# Altium footprint library qfc.PcbLib: 40 footprints (part 1 of 3)
Each footprint in its own frame and in the unit in brackets; x right, y up, seen from the top. Pads: shape width x height; smd on the part's side, far side on the other; paste and mask are expansions set on the pad; w line width, h text height; cw(c..) or ccw(c..) is an arc to the next point about the centre after c.
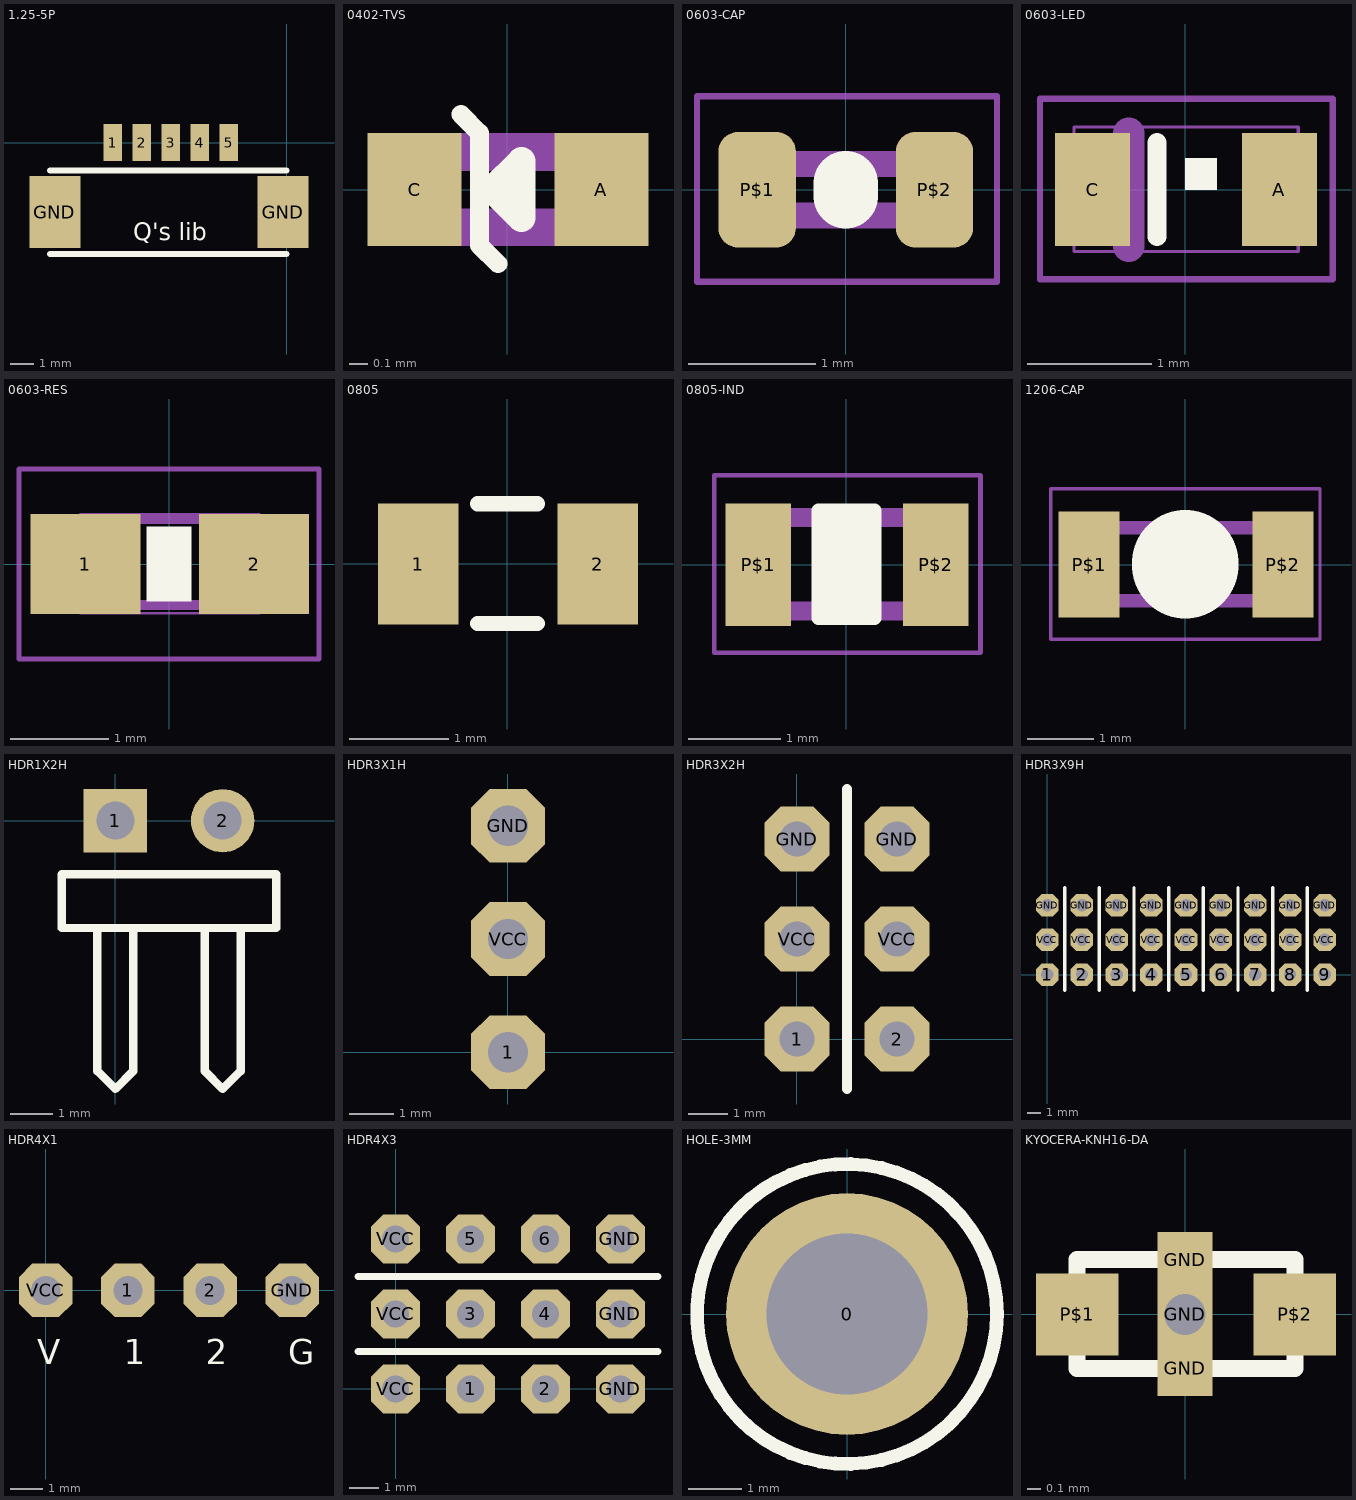
[diagram p0: the footprints below, top view; thin cyan lines are the x and y axes]

## 1.25-5P [mm]
pads (7):
  rect 0.8x1.6 smd: 1(-7.5,0) 2(-6.25,0) 3(-5,0) 4(-3.75,0) 5(-2.5,0)
  rect 2.2x3.1 smd: GND(-9.982,-2.997) GND(-0.15,-3)
Top Overlay:
  lines w0.25: -10.2,-4.8 0,-4.8 ; -10.2,-1.2 0,-1.2
  text "Q's lib" at -6.6,-4.2 h0.76

## 0402-TVS [mil] "0402-TVS"
pads (2):
  rect 20x24 smd: A(20,0) C(-19.68,0)
Top Overlay:
  lines w4: -9.84,16 -5.91,12 -5.91,-11.81 -1.97,-15.75
  lines w6: -3,0 3,0 ; -3,0 3,-6 3,0 ; -3,0 3,6 3,0
Mechanical 16:
  rectangle: 16.06,-12 28.06,12
  rectangle: -27.94,-12 -15.94,12
  lines w8: -20,-8 20,-8 ; -20,8 20,8
3D body: height 19.68, standoff 0, extent -19.69,-9.84 19.68,9.84

## 0603-CAP [mil] "0603-CAP"
pads (2):
  rrect50% 24x36 smd mask+0: P$1(-27.56,0) P$2(27.56,0)
Top Overlay:
  lines w20: 0,-2 0,2
Mechanical 16:
  rectangle: 16.25,-11.94 28.25,12.06
  rectangle: -27.75,-11.94 -15.75,12.06
  lines w2: -46.26,-28.54 -46.26,29 47,29 47,-28.54 -46.26,-28.54
  lines w8: -20,-8 20,-8 ; -20,8 20,8
3D body: height 34.25, standoff -0.39, extent -31.5,-15.95 31.5,15.94

## 0603-LED [mil]
pads (2):
  rect 24x36 smd: A(30,0) C(-29.53,0)
Top Overlay:
  region: 0,0 10,0 10,10 0,10
  lines w6: -9,-15 -9,15
Mechanical 16:
  region: 0,0 10,0 10,10 0,10
  lines w1: -35.43,-19.69 -35.43,20 36,20 36,-19.69 -35.43,-19.69
  lines w2: -46.26,-28.54 -46.26,29 47,29 47,-28.54 -46.26,-28.54
  lines w10: -18,-18 -18,18

## 0603-RES [mil] "0603-RES"
pads (2):
  rect 44x40 smd: 1(-33.46,0) 2(34,0)
Top Overlay:
  rectangle: -9,-15 9,15
Mechanical 6:
  rectangle: -7.87,-11.81 8,12
Mechanical 16:
  rectangle: 13,-18.5 33,19
  rectangle: -33.24,-19.21 -13.55,18.29
  lines w1: -35.43,-19.68 -35.43,20 36,20 36,-19.68 -35.43,-19.68
  lines w2: -60,-38 -60,38 60,38 60,-38 -60,-38
  lines w4: -14.02,-16.5 15,-16.5 ; -14.02,18 15,18
3D body: height 34.25, standoff -0.39, extent -31.5,-15.94 31.5,15.95

## 0805 [mil] "0805"
pads (2):
  rect 32x48 smd: 1(-35.43,0) 2(36,0)
Top Overlay:
  lines w6: -11.81,-23.62 12,-23.62 ; -11.81,24 12,24
3D body: height 30.79, standoff 0, extent -39.37,-24.61 39.37,24.6

## 0805-IND [mil]
pads (2):
  rect 28x52 smd: P$1(-37.4,0) P$2(38,0)
Top Overlay:
  rectangle: -11.76,-22.6 12,22.99
  lines w6: -11.76,-22.59 12,-22.59 12,23 -11.76,23 -11.76,-22.59
Mechanical 16:
  rectangle: 24,-23.68 40,23.99
  rectangle: -39.37,-23.68 -23.62,23.99
  lines w2: -56.1,-37.4 -56.1,38 57,38 57,-37.4 -56.1,-37.4
  lines w8: -23.62,-19.69 24,-19.69 ; -23.62,20 24,20

## 1206-CAP [mil]
pads (2):
  rect 36x63 smd: P$1(-57.09,0) P$2(58,0)
Top Overlay:
  lines w63: 0,-0.39 0,1
Mechanical 16:
  rectangle: 46.04,-25.59 69.04,26
  rectangle: -68.88,-25.6 -45.26,25.99
  lines w2: -79.72,-44.29 -79.72,45 80,45 80,-44.29 -79.72,-44.29
  lines w8: -45.28,-21.59 46,-21.59 ; -45.28,22 46,22

## HDR1X2H [mm] "Connector; Header; 2 Position; Right Angle"
pads (2):
  rect 1.5x1.5 hole 0.9: 1(0,0)
  round 1.5 hole 0.9: 2(2.54,0)
Top Overlay:
  lines w0.2: -0.423,-2.54 -0.423,-5.927 0,-6.35 0.423,-5.927 0.423,-2.54 ; 2.117,-2.54 2.117,-5.927 2.54,-6.35 2.963,-5.927 2.963,-2.54 ; -1.27,-2.54 -1.27,-1.27 3.81,-1.27 3.81,-2.54 -1.27,-2.54

## HDR3X1H [mil]
pads (3):
  oct 65x65 hole 35.43: 1(0,0) GND(0,200) VCC(0,100)
3D body: height 393.7, standoff 0, extent -19.24,80.04 20.13,119.41
3D body: height 118.11, standoff 0, extent -50,-50 50,250
3D body: height 393.7, standoff 0, extent -19.24,-19.96 20.13,19.41
3D body: height 393.7, standoff 0, extent -19.24,180.04 20.13,219.41

## HDR3X2H [mil]
pads (6):
  oct 65x65 hole 35.43: 1(0,0) 2(100,0) GND(0,200) GND(100,200) VCC(0,100) VCC(100,100)
Top Overlay:
  lines w9.84: 50,-50 50,250
3D body: height 393.7, standoff 0, extent 80.76,-19.96 120.13,19.41
3D body: height 393.7, standoff 0, extent 80.76,180.04 120.13,219.41
3D body: height 393.7, standoff 0, extent 80.76,80.04 120.13,119.41
3D body: height 393.7, standoff 0, extent -19.24,180.04 20.13,219.41
3D body: height 393.7, standoff 0, extent -19.24,-19.96 20.13,19.41
3D body: height 118.11, standoff 0, extent -50,-50 150,250
3D body: height 393.7, standoff 0, extent -19.24,80.04 20.13,119.41

## HDR3X9H [mil]
pads (27):
  oct 65x65 hole 35.43: 1(0,0) 2(100,0) 3(200,0) 4(300,0) 5(400,0) 6(500,0) 7(600,0) 8(700,0) 9(800,0) GND(0,200) GND(100,200) GND(200,200) GND(300,200) GND(400,200) GND(500,200) GND(600,200) GND(700,200) GND(800,200) VCC(0,100) VCC(100,100) VCC(200,100) VCC(300,100) VCC(400,100) VCC(500,100) VCC(600,100) VCC(700,100) VCC(800,100)
Top Overlay:
  lines w9.84: 150,-45 150,250 ; 250,-45 250,250 ; 350,-45 350,250 ; 450,-45 450,250 ; 550,-45 550,250 ; 650,-45 650,250 ; 750,-45 750,250 ; 50,-45 50,250 50,-45
3D body: height 393.7, standoff 0, extent -19.24,80.04 20.13,119.41
3D body: height 118.11, standoff 0, extent -50,-50 850,250
3D body: height 393.7, standoff 0, extent -19.24,-19.96 20.13,19.41
3D body: height 393.7, standoff 0, extent -19.24,180.04 20.13,219.41
3D body: height 393.7, standoff 0, extent 80.76,80.04 120.13,119.41
3D body: height 393.7, standoff 0, extent 80.76,180.04 120.13,219.41
3D body: height 393.7, standoff 0, extent 80.76,-19.96 120.13,19.41
3D body: height 393.7, standoff 0, extent 180.76,80.04 220.13,119.41
3D body: height 393.7, standoff 0, extent 180.76,180.04 220.13,219.41
3D body: height 393.7, standoff 0, extent 180.76,-19.96 220.13,19.41
3D body: height 393.7, standoff 0, extent 280.76,80.04 320.13,119.41
3D body: height 393.7, standoff 0, extent 280.76,180.04 320.13,219.41
3D body: height 393.7, standoff 0, extent 280.76,-19.96 320.13,19.41
3D body: height 393.7, standoff 0, extent 380.76,80.04 420.13,119.41
3D body: height 393.7, standoff 0, extent 380.76,180.04 420.13,219.41
3D body: height 393.7, standoff 0, extent 380.76,-19.96 420.13,19.41
3D body: height 393.7, standoff 0, extent 480.76,80.04 520.13,119.41
3D body: height 393.7, standoff 0, extent 480.76,180.04 520.13,219.41
3D body: height 393.7, standoff 0, extent 480.76,-19.96 520.13,19.41
3D body: height 393.7, standoff 0, extent 580.76,80.04 620.13,119.41
3D body: height 393.7, standoff 0, extent 580.76,180.04 620.13,219.41
3D body: height 393.7, standoff 0, extent 580.76,-19.96 620.13,19.41
3D body: height 393.7, standoff 0, extent 680.76,80.04 720.13,119.41
3D body: height 393.7, standoff 0, extent 680.76,180.04 720.13,219.41
3D body: height 393.7, standoff 0, extent 680.76,-19.96 720.13,19.41
3D body: height 393.7, standoff 0, extent 780.76,80.04 820.13,119.41
3D body: height 393.7, standoff 0, extent 780.76,180.04 820.13,219.41
3D body: height 393.7, standoff 0, extent 780.76,-19.96 820.13,19.41

## HDR4X1 [mil]
pads (4):
  oct 65x65 hole 35.43: 1(100,0) 2(200,0) GND(300,0) VCC(0,0)
Top Overlay:
  text "2" at 195,-90 h30
  text "G" at 295,-90 h30
  text "V" at -10,-90 h30
  text "1" at 95,-90 h30
3D body: height 118.11, standoff 0, extent -50,-50 350,50
3D body: height 393.7, standoff 0, extent -19.24,-19.96 20.13,19.41
3D body: height 393.7, standoff 0, extent 80.76,-19.96 120.13,19.41
3D body: height 393.7, standoff 0, extent 180.76,-19.96 220.13,19.41
3D body: height 393.7, standoff 0, extent 280.76,-19.96 320.13,19.41

## HDR4X3 [mil]
pads (12):
  oct 65x65 hole 35.43: 1(100,0) 2(200,0) 3(100,100) 4(200,100) 5(100,200) 6(200,200) GND(300,0) GND(300,100) GND(300,200) VCC(0,0) VCC(0,100) VCC(0,200)
Top Overlay:
  lines w9.84: -50,50 350,50 ; -50,150 350,150
3D body: height 118.11, standoff 0, extent -50,-50 350,250
3D body: height 393.7, standoff 0, extent 280.76,80.04 320.13,119.41
3D body: height 393.7, standoff 0, extent 280.76,180.04 320.13,219.41
3D body: height 393.7, standoff 0, extent 280.76,-19.96 320.13,19.41
3D body: height 393.7, standoff 0, extent -19.24,80.04 20.13,119.41
3D body: height 393.7, standoff 0, extent -19.24,-19.96 20.13,19.41
3D body: height 393.7, standoff 0, extent -19.24,180.04 20.13,219.41
3D body: height 393.7, standoff 0, extent 80.76,80.04 120.13,119.41
3D body: height 393.7, standoff 0, extent 80.76,180.04 120.13,219.41
3D body: height 393.7, standoff 0, extent 80.76,-19.96 120.13,19.41
3D body: height 393.7, standoff 0, extent 180.76,80.04 220.13,119.41
3D body: height 393.7, standoff 0, extent 180.76,180.04 220.13,219.41
3D body: height 393.7, standoff 0, extent 180.76,-19.96 220.13,19.41
3D body: height 393.7, standoff 0, extent 180.76,-19.96 220.13,19.41
3D body: height 393.7, standoff 0, extent 180.76,180.04 220.13,219.41
3D body: height 393.7, standoff 0, extent 180.76,80.04 220.13,119.41
3D body: height 393.7, standoff 0, extent 80.76,180.04 120.13,219.41
3D body: height 393.7, standoff 0, extent 80.76,-19.96 120.13,19.41
3D body: height 393.7, standoff 0, extent 80.76,80.04 120.13,119.41

## HOLE-3MM [mm] "Surface mount thread"
height 2
pads (1):
  round 4.5 hole 3: 0(0,0)
Top Overlay:
  circle w0.254: c0,0 r2.794
Top Paste:
  lines w1: -1.414,-0.707 ccw(c0,0) -0.707,-1.414 ; -1.414,0.707 cw(c0,0) -0.707,1.414 ; 0.707,-1.414 ccw(c0,0) 1.414,-0.707 ; 0.707,1.414 cw(c0,0) 1.414,0.707
Top Solder:
  lines w1: -1.414,-0.707 ccw(c0,0) -0.707,-1.414 ; -1.414,0.707 cw(c0,0) -0.707,1.414 ; 0.707,-1.414 ccw(c0,0) 1.414,-0.707 ; 0.707,1.414 cw(c0,0) 1.414,0.707
3D body: height 2, standoff -0.48, extent -1.651,-1.83 1.529,1.83

## KYOCERA-KNH16-DA [mil] "KYOCERA-KNH16-DA"
pads (5):
  rect 16x16 smd: GND(0,-15.75) GND(0,16)
  rect 16x16 hole 12: GND(0,0)
  rect 24x24 smd: P$1(-31.5,0) P$2(32,0)
Top Overlay:
  lines w5: -31.5,-15.75 -31.5,16 32,16 32,-15.75 -31.5,-15.75
3D body: height 13.78, standoff 0, extent -19.68,-9.84 19.68,9.84